# EAGLE library part LTC3119 (library CougsInSpace-IC-Power)
DC/DC Converter Buck-Boost 5A LTC3119 <https://github.com/CougsInSpace/Resources/blob/master/SupplierDocuments/Linear/LTC3119-BuckBoostConverter5A.pdf>
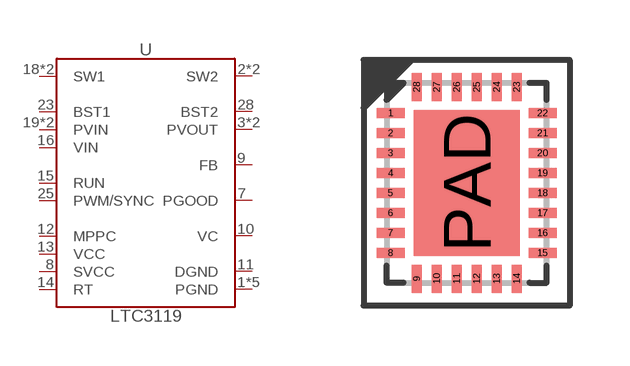
[diagram p1: symbol with the pads of QFN-28-4050; footprint QFN-28-4050]

Designator prefix U

## LTC3119EUFD (SKU: 60-0002; VALUE: LTC3119)  [QFN-28-4050]
1  PGND  pwr
2  SW2  pas
3  PVOUT  out
4  PVOUT  out
5  SW2  pas
6  PGND  pwr
7  PGOOD  out
8  SVCC  pwr
9  FB  in
10  VC  out
11  DGND  pwr
12  MPPC  in
13  VCC  pwr
14  RT  in
15  RUN  in
16  VIN  in
17  PGND  pwr
18  SW1  pas
19  PVIN  in
20  PVIN  in
21  SW1  pas
22  PGND  pwr
23  BST1  pas
25  PWM/SYNC  in
28  BST2  pas
PAD  PGND  pwr

## Footprint QFN-28-4050 (pad centres in mm)
Quad Flat No-Leads (QFN) - 28 pins - 4.0 x 5.0 mm
smd 0.7 x 0.25: 1 -1.9,1.75; 2 -1.9,1.25; 3 -1.9,0.75; 4 -1.9,0.25; 5 -1.9,-0.25; 6 -1.9,-0.75; 7 -1.9,-1.25; 8 -1.9,-1.75; 15 1.9,-1.75; 16 1.9,-1.25; 17 1.9,-0.75; 18 1.9,-0.25; 19 1.9,0.25; 20 1.9,0.75; 21 1.9,1.25; 22 1.9,1.75
smd 0.25 x 0.7: 9 -1.25,-2.4; 10 -0.75,-2.4; 11 -0.25,-2.4; 12 0.25,-2.4; 13 0.75,-2.4; 14 1.25,-2.4; 23 1.25,2.4; 24 0.75,2.4; 25 0.25,2.4; 26 -0.25,2.4; 27 -0.75,2.4; 28 -1.25,2.4
smd 2.65 x 3.65: PAD 0,0